# EAGLE library part M66FA-04-STD (library Quectel)
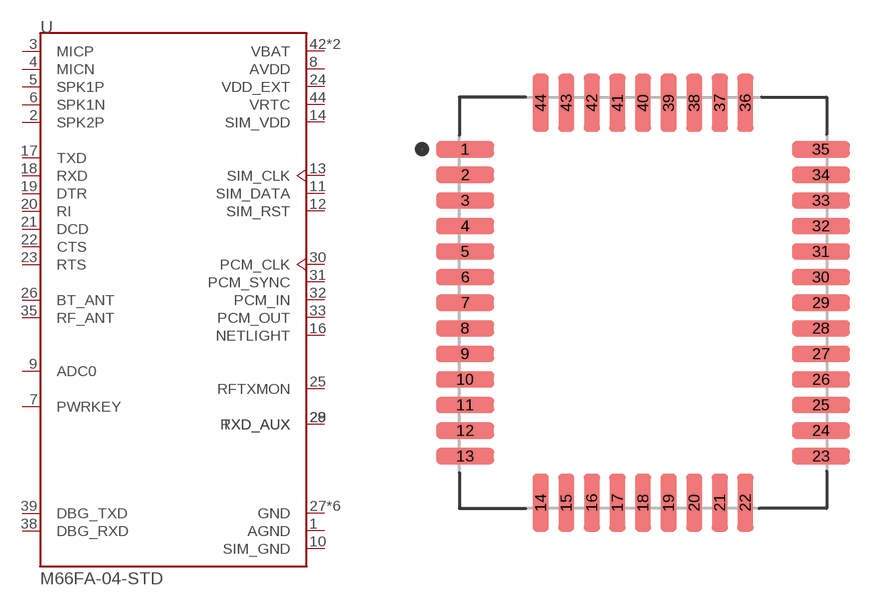
[diagram p1: symbol with the pads of M66FA-049SD; footprint M66FA-049SD]

Designator prefix -

## M66FA-04-STD  [M66FA-049SD]
1  AGND  pwr
2  SPK2P  out
3  MICP  in
4  MICN  in
5  SPK1P  out
6  SPK1N  out
7  PWRKEY  in
8  AVDD  pwr
9  ADC0  in
10  SIM_GND  pwr
11  SIM_DATA
12  SIM_RST  out
13  SIM_CLK  out
14  SIM_VDD  pwr
16  NETLIGHT  out
17  TXD  out
18  RXD  in
19  DTR  in
20  RI  out
21  DCD  out
22  CTS  out
23  RTS  in
24  VDD_EXT  pwr
25  RFTXMON  out
26  BT_ANT
27  GND  pwr
28  RXD_AUX  in
29  TXD_AUX  out
30  PCM_CLK  out
31  PCM_SYNC  out
32  PCM_IN  in
33  PCM_OUT  out
34  GND  pwr
35  RF_ANT
36  GND  pwr
37  GND  pwr
38  DBG_RXD  in
39  DBG_TXD  out
40  GND  pwr
41  GND  pwr
42  VBAT  pwr
43  VBAT  pwr
44  VRTC  pwr

## Footprint M66FA-049SD (pad centres in mm)
smd 2.5 x 0.7: 1 -7.65,5.33; 2 -7.65,4.23; 3 -7.65,3.13; 4 -7.65,2.03; 5 -7.65,0.93; 6 -7.65,-0.17; 7 -7.65,-1.27; 8 -7.65,-2.37; 9 -7.65,-3.47; 10 -7.65,-4.57; 11 -7.65,-5.67; 12 -7.65,-6.77; 13 -7.65,-7.87; 23 7.65,-7.87; 24 7.65,-6.77; 25 7.65,-5.67; 26 7.65,-4.57; 27 7.65,-3.47; 28 7.65,-2.37; 29 7.65,-1.27; 30 7.65,-0.17; 31 7.65,0.93; 32 7.65,2.03; 33 7.65,3.13; 34 7.65,4.23; 35 7.65,5.33
smd 0.7 x 2.5: 14 -4.4,-9.87; 15 -3.3,-9.87; 16 -2.2,-9.87; 17 -1.1,-9.87; 18 0,-9.87; 19 1.1,-9.87; 20 2.2,-9.87; 21 3.3,-9.87; 22 4.4,-9.87; 36 4.4,7.33; 37 3.3,7.33; 38 2.2,7.33; 39 1.1,7.33; 40 0,7.33; 41 -1.1,7.33; 42 -2.2,7.33; 43 -3.3,7.33; 44 -4.4,7.33